# Altium footprint library PcbLib1.PcbLib: 2 footprints
Each footprint in its own frame and in the unit in brackets; x right, y up, seen from the top. Pads: shape width x height; smd on the part's side, far side on the other; paste and mask are expansions set on the pad; w line width, h text height; cw(c..) or ccw(c..) is an arc to the next point about the centre after c.
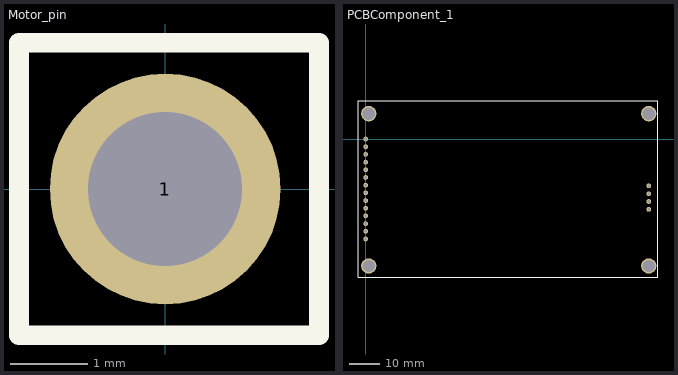
[diagram p0: the footprints below, top view; thin cyan lines are the x and y axes]

## Motor_pin [mm]
pads (1):
  round 3 hole 2: 1(0,0)
Top Overlay:
  lines w0.254: -1.9,-1.9 2,-1.9 2,1.9 -1.9,1.9 -1.9,-1.9

## PCBComponent_1 [mm]
pads (22):
  round 1.524 hole 0.9: 1(0,0) 2(0,-2.5) 3(0,-5) 4(0,-7.5) 5(0,-10) 6(0,-12.5) 7(0,-15) 8(0,-17.5) 9(0,-20) 10(0,-22.5) 11(0,-25) 12(0,-27.5) 13(0,-30) 14(0,-32.5) 15(92,-22.86) 16(92,-20.32) 17(92,-17.78) 18(92,-15.24)
  round 5 hole 4: ""(1,-41.26) ""(1,8.24) ""(92,-41.26) ""(92,8.24)
Top Overlay:
  lines w0.254: -2.5,-45 95,-45 95,12.5 -2.5,12.5 -2.5,-45